# EAGLE library part 5060BRG4 (library FCC_parts)
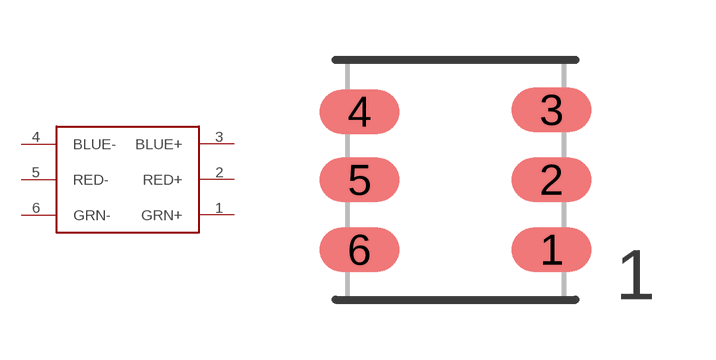
[diagram p11: symbol with the pads of 5060BRG4; footprint 5060BRG4]

Designator prefix -

## 5060BRG45060BRG4  [5060BRG4]
1  GRN+
2  RED+
3  BLUE+
4  BLUE-
5  RED-
6  GRN-

## Footprint 5060BRG4 (pad centres in mm)
smd 2 x 1.1: 1 2.4,-1.75; 2 2.4,0; 3 2.4,1.75; 4 -2.4,1.7; 5 -2.4,0; 6 -2.4,-1.75